# Altium integrated library QSTL_MicroDSUB_Socket_FFC.IntLib: 1 symbol
Pins are listed as number, name and electrical type; pins without a type are passive.

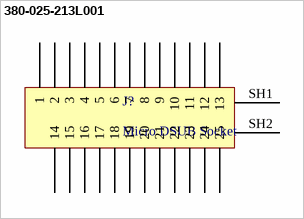
[diagram p0: symbol 380-025-213L001]

## 380-025-213L001
designator J?, comment Micro DSUB Socket
https://www.digikey.ca/en/products/detail/norcomp-inc/380-025-213L001/2798600?s=N4IgTCBcDaIMwA4AMBaJYCsKwEY4BkkkcQBdAXyA
footprint 380-025-213L001
pins: 1, 2, 3, 4, 5, 6, 7, 8, 9, 10, 11, 12, 13, 14, 15, 16, 17, 18, 19, 20, 21, 22, 23, 24, 25, SH1, SH2